# Altium footprint library LGA.PcbLib: 12 footprints
Each footprint in its own frame and in the unit in brackets; x right, y up, seen from the top. Pads: shape width x height; smd on the part's side, far side on the other; paste and mask are expansions set on the pad; w line width, h text height; cw(c..) or ccw(c..) is an arc to the next point about the centre after c.
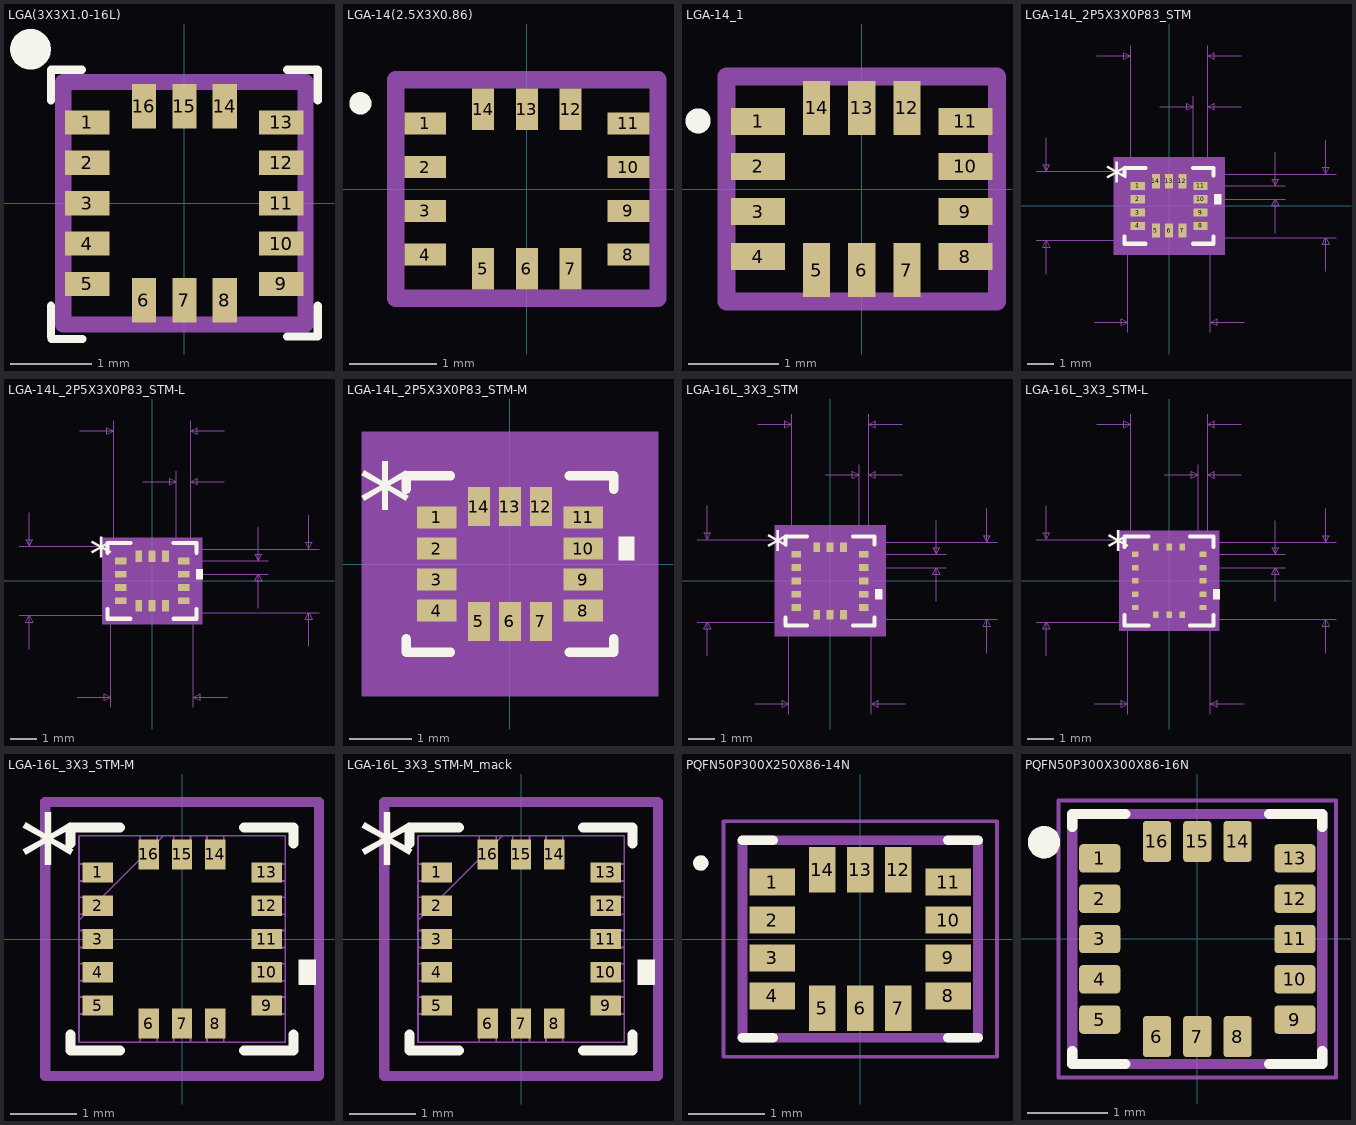
[diagram p0: the footprints below, top view; thin cyan lines are the x and y axes]

## LGA(3X3X1.0-16L) [mm]
pads (16):
  rect 0.55x0.3 smd: 1(-1.2,1) 2(-1.2,0.5) 3(-1.2,0) 4(-1.2,-0.5) 5(-1.2,-1) 9(1.2,-1) 10(1.2,-0.5) 11(1.2,0) 12(1.2,0.5) 13(1.2,1)
  rect 0.3x0.55 smd: 6(-0.5,-1.2) 7(0,-1.2) 8(0.5,-1.2) 14(0.5,1.2) 15(0,1.2) 16(-0.5,1.2)
Top Overlay:
  circle w0.25: c-1.905,1.905 r0.127
  lines w0.1: -1.651,-1.651 -1.651,-1.27 ; -1.651,1.27 -1.651,1.651 -1.27,1.651 ; -1.644,-1.681 -1.263,-1.681 ; 1.27,-1.651 1.651,-1.651 1.651,-1.27 ; 1.27,1.651 1.651,1.651 1.651,1.27
Mechanical 13:
  lines w0.2: -1.5,-1.5 -1.5,1.5 1.5,1.5 1.5,-1.5 -1.5,-1.5
3D body "LGA-16L_3X3_STM.step": height 0.87, standoff 0, extent -1.549,-1.549 1.549,1.549

## LGA-14(2.5X3X0.86) [mm]
pads (14):
  rect 0.475x0.25 smd: 1(-1.162,0.75) 2(-1.162,0.25) 3(-1.162,-0.25) 4(-1.162,-0.75) 8(1.162,-0.75) 9(1.162,-0.25) 10(1.162,0.25) 11(1.162,0.75)
  rect 0.25x0.475 smd: 5(-0.5,-0.913) 6(0,-0.913) 7(0.5,-0.913) 12(0.5,0.913) 13(0,0.913) 14(-0.5,0.913)
Top Overlay:
  circle w0.2: c-1.905,0.98 r0.027
Mechanical 13:
  lines w0.2: -1.5,-1.25 -1.5,1.25 1.5,1.25 1.5,-1.25 -1.5,-1.25
3D body "LSM6DSOTR.stp": height 0.86, standoff 0, extent -1.5,-1.25 1.5,1.25

## LGA-14_1 [mm]
pads (14):
  rect 0.6x0.3 smd: 1(-1.15,0.75) 2(-1.15,0.25) 3(-1.15,-0.25) 4(-1.15,-0.75) 8(1.15,-0.75) 9(1.15,-0.25) 10(1.15,0.25) 11(1.15,0.75)
  rect 0.3x0.6 smd: 5(-0.5,-0.9) 6(0,-0.9) 7(0.5,-0.9) 12(0.5,0.9) 13(0,0.9) 14(-0.5,0.9)
Top Overlay:
  circle w0.254: c-1.815,0.756 r0.012
Mechanical 13:
  lines w0.2: -1.5,-1.25 1.5,-1.25 1.5,1.25 -1.5,1.25 -1.5,-1.25
3D body "LSM6DSOXTR.stp": height 0.86, standoff 0, extent -1.62,-1.25 1.38,1.25

## LGA-14L_2P5X3X0P83_STM [mil]
pads (14):
  rect 21x12 smd paste-2.1 mask+2: 1(-46.5,29.53) 2(-46.5,9.84) 3(-46.5,-9.84) 4(-46.5,-29.53) 8(46.5,-29.53) 9(46.5,-9.84) 10(46.5,9.84) 11(46.5,29.53)
  rect 12x21 smd paste-2.1 mask+2: 5(-19.68,-36.5) 6(0,-36.5) 7(19.68,-36.5) 12(19.68,36.5) 13(0,36.5) 14(-19.68,36.5)
Top Overlay:
  region: 67,17.34 77,17.34 77,2.34 67,2.34
  lines w6: -66,-45.05 -66,-56 -35.2,-56 ; -66,45.05 -66,56 -35.2,56 ; 35.2,-56 66,-56 66,-45.05 ; 35.2,56 66,56 66,45.05
  text "*" at -94.5,14.37 h50
Mechanical 5:
  region: 82,-72 -82,-72 -82,72 82,72
Mechanical 7:
  lines w1: -197,-51 61,-51 ; -197,51 61,51 61,-187 ; -182,-101 -182,-51 ; -182,101 -182,51 ; -111,-172 -61,-172 ; -107,222 -57,222 ; -61,-187 -61,51 ; -57,29.53 -57,237 ; -14,147 36,147 ; 19.68,-47 247,-47 ; 19.68,47 247,47 ; 36,29.53 36,162 ; 46.5,9.84 172,9.84 ; 46.5,29.53 172,29.53 ; 57,162 57,29.53 57,237 ; 107,147 57,147 ; 107,222 57,222 ; 111,-172 61,-172 ; 157,-40.16 157,9.84 ; 157,79.53 157,29.53 ; 232,-97 232,-47 ; 232,97 232,47 ; -182,-51 -177,-61 -187,-61 -182,-51 ; -182,51 -177,61 -187,61 -182,51 ; -61,-172 -71,-177 -71,-167 -61,-172 ; -57,222 -67,217 -67,227 -57,222 ; 36,147 26,142 26,152 36,147 ; 57,147 67,142 67,152 57,147 ; 57,222 67,217 67,227 57,222 ; 61,-172 71,-177 71,-167 61,-172 ; 157,9.84 162,-0.16 152,-0.16 157,9.84 ; 157,29.53 162,39.53 152,39.53 157,29.53 ; 232,-47 237,-57 227,-57 232,-47 ; 232,47 237,57 227,57 232,47
  text "0.122in/3.099mm" at -93.75,-217 h25
  text "0.102in/2.591mm" at -389.5,-12.5 h25
  text "0.094in/2.388mm" at 252,-12.5 h25
  text "0.114in/2.896mm" at -93.75,242 h25
  text "0.021in/0.533mm" at -47.25,167 h25
  text "0.02in/0.5mm" at 177,7.18 h25
  text "Alt 2 Padstyle: OX90Y60D30P" at -337.5,-597 h50
  text "Alt 1 Padstyle: OX60Y90D30P" at -337.5,-537 h50
  text "Default Padstyle: RX12Y21D0T" at -350,-357 h50
Mechanical 13:
  lines w1: -61,1 -11,51 ; -61,-51 -61,51 61,51 61,-51 -61,-51 ; -61,-35.53 -57,-35.53 -57,-23.53 -61,-23.53 -61,-35.53 ; -61,-15.84 -57,-15.84 -57,-3.84 -61,-3.84 -61,-15.84 ; -61,3.84 -57,3.84 -57,15.84 -61,15.84 -61,3.84 ; -61,23.53 -57,23.53 -57,35.53 -61,35.53 -61,23.53 ; -25.68,-51 -25.68,-47 -13.69,-47 -13.69,-51 -25.68,-51 ; -25.68,47 -25.68,51 -13.69,51 -13.69,47 -25.68,47 ; -6,-51 -6,-47 6,-47 6,-51 -6,-51 ; -6,47 -6,51 6,51 6,47 -6,47 ; 13.69,-51 13.69,-47 25.68,-47 25.68,-51 13.69,-51 ; 13.69,47 13.69,51 25.68,51 25.68,47 13.69,47 ; 57,-35.53 57,-23.53 61,-23.53 61,-35.53 57,-35.53 ; 57,-15.84 57,-3.84 61,-3.84 61,-15.84 57,-15.84 ; 57,3.84 57,15.84 61,15.84 61,3.84 57,3.84 ; 57,23.53 57,35.53 61,35.53 61,23.53 57,23.53
  text "*" at -48.5,14.37 h50
Mechanical 15:
  region: -35.69,-61 -71,-61 -71,-45.53 -71,45.53 -71,61 -35.69,61 35.69,61 71,61 71,45.53 71,-45.53 71,-61 35.69,-61
  lines w6: -71,-61 -35.69,-61 35.69,-61 71,-61 71,-45.53 71,45.53 71,61 35.69,61 -35.69,61 -71,61 -71,45.53 -71,-45.53 -71,-61
3D body "LGA-14L_2P5X3X0P83_STM.step": height 34.09, standoff 0, extent -60.98,-50.98 60.99,50.99
3D body: height 10, standoff 0, extent 0,0 10,10

## LGA-14L_2P5X3X0P83_STM-L [mil]
pads (14):
  rect 17x10 smd paste+0 mask+0: 1(-46.5,29.53) 2(-46.5,9.84) 3(-46.5,-9.84) 4(-46.5,-29.53) 8(46.5,-29.53) 9(46.5,-9.84) 10(46.5,9.84) 11(46.5,29.53)
  rect 10x17 smd paste+0 mask+0: 5(-19.68,-36.5) 6(0,-36.5) 7(19.68,-36.5) 12(19.68,36.5) 13(0,36.5) 14(-19.68,36.5)
Top Overlay:
  region: 65,17.34 75,17.34 75,2.34 65,2.34
  lines w6: -66,-41.64 -66,-56 -31.8,-56 ; -66,41.64 -66,56 -31.8,56 ; 31.8,-56 66,-56 66,-41.64 ; 31.8,56 66,56 66,41.64
  text "*" at -92.5,14.37 h50
Mechanical 5:
  region: 74,-64 -74,-64 -74,64 74,64
Mechanical 7:
  lines w1: -197,-51 61,-51 ; -197,51 61,51 61,-187 ; -182,-101 -182,-51 ; -182,101 -182,51 ; -111,-172 -61,-172 ; -107,222 -57,222 ; -61,-187 -61,51 ; -57,29.53 -57,237 ; -14,147 36,147 ; 19.68,-47 247,-47 ; 19.68,47 247,47 ; 36,29.53 36,162 ; 46.5,9.84 172,9.84 ; 46.5,29.53 172,29.53 ; 57,162 57,29.53 57,237 ; 107,147 57,147 ; 107,222 57,222 ; 111,-172 61,-172 ; 157,-40.16 157,9.84 ; 157,79.53 157,29.53 ; 232,-97 232,-47 ; 232,97 232,47 ; -182,-51 -187,-61 -177,-61 -182,-51 ; -182,51 -187,61 -177,61 -182,51 ; -61,-172 -71,-167 -71,-177 -61,-172 ; -57,222 -67,227 -67,217 -57,222 ; 36,147 26,152 26,142 36,147 ; 57,147 67,152 67,142 57,147 ; 57,222 67,227 67,217 57,222 ; 61,-172 71,-167 71,-177 61,-172 ; 157,9.84 152,-0.16 162,-0.16 157,9.84 ; 157,29.53 152,39.53 162,39.53 157,29.53 ; 232,-47 227,-57 237,-57 232,-47 ; 232,47 227,57 237,57 232,47
  text "Default Padstyle: RX10Y17D0T" at -350,-355 h50
  text "Alt 1 Padstyle: OX60Y90D30P" at -337.5,-535 h50
  text "Alt 2 Padstyle: OX90Y60D30P" at -337.5,-595 h50
  text "0.02in/0.5mm" at 177,7.18 h25
  text "0.021in/0.533mm" at -47.25,167 h25
  text "0.114in/2.896mm" at -93.75,242 h25
  text "0.094in/2.388mm" at 252,-12.5 h25
  text "0.102in/2.591mm" at -389.5,-12.5 h25
  text "0.122in/3.099mm" at -93.75,-217 h25
Mechanical 13:
  lines w1: -61,1 -11,51 ; -61,-51 61,-51 61,51 -61,51 -61,-51 ; -61,-35.53 -61,-23.53 -57,-23.53 -57,-35.53 -61,-35.53 ; -61,-15.84 -61,-3.84 -57,-3.84 -57,-15.84 -61,-15.84 ; -61,3.84 -61,15.84 -57,15.84 -57,3.84 -61,3.84 ; -61,23.53 -61,35.53 -57,35.53 -57,23.53 -61,23.53 ; -25.68,-51 -13.69,-51 -13.69,-47 -25.68,-47 -25.68,-51 ; -25.68,47 -13.69,47 -13.69,51 -25.68,51 -25.68,47 ; -6,-51 6,-51 6,-47 -6,-47 -6,-51 ; -6,47 6,47 6,51 -6,51 -6,47 ; 13.69,-51 25.68,-51 25.68,-47 13.69,-47 13.69,-51 ; 13.69,47 25.68,47 25.68,51 13.69,51 13.69,47 ; 57,-35.53 61,-35.53 61,-23.53 57,-23.53 57,-35.53 ; 57,-15.84 61,-15.84 61,-3.84 57,-3.84 57,-15.84 ; 57,3.84 61,3.84 61,15.84 57,15.84 57,3.84 ; 57,23.53 61,23.53 61,35.53 57,35.53 57,23.53
  text "*" at -50.5,14.37 h50
Mechanical 15:
  region: -28.68,-55 -65,-55 -65,-38.53 -65,38.53 -65,55 -28.68,55 28.68,55 65,55 65,38.53 65,-38.53 65,-55 28.68,-55
  lines w6: -65,-55 -65,-38.53 -65,38.53 -65,55 -28.68,55 28.68,55 65,55 65,38.53 65,-38.53 65,-55 28.68,-55 -28.68,-55 -65,-55
3D body: height 10, standoff 0, extent 0,0 10,10
3D body "LGA-14L_2P5X3X0P83_STM.step": height 34.09, standoff 0, extent -60.98,-50.98 60.99,50.99

## LGA-14L_2P5X3X0P83_STM-M [mil]
pads (14):
  rect 25x14 smd paste+0 mask+0: 1(-46.5,29.53) 2(-46.5,9.84) 3(-46.5,-9.84) 4(-46.5,-29.53) 8(46.5,-29.53) 9(46.5,-9.84) 10(46.5,9.84) 11(46.5,29.53)
  rect 14x25 smd paste+0 mask+0: 5(-19.68,-36.5) 6(0,-36.5) 7(19.68,-36.5) 12(19.68,36.5) 13(0,36.5) 14(-19.68,36.5)
Top Overlay:
  region: 69,17.34 79,17.34 79,2.34 69,2.34
  lines w6: -66,-47.6 -66,-56 -37.76,-56 ; -66,47.6 -66,56 -37.76,56 ; 37.76,-56 66,-56 66,-47.6 ; 37.76,56 66,56 66,47.6
  text "*" at -96.5,14.37 h50
Mechanical 5:
  region: 94,-84 -94,-84 -94,84 94,84
Mechanical 13:
  lines w1: -61,1 -11,51 ; -61,-51 61,-51 61,51 -61,51 -61,-51 ; -61,-35.53 -61,-23.53 -57,-23.53 -57,-35.53 -61,-35.53 ; -61,-15.84 -61,-3.84 -57,-3.84 -57,-15.84 -61,-15.84 ; -61,3.84 -61,15.84 -57,15.84 -57,3.84 -61,3.84 ; -61,23.53 -61,35.53 -57,35.53 -57,23.53 -61,23.53 ; -25.68,-51 -13.69,-51 -13.69,-47 -25.68,-47 -25.68,-51 ; -25.68,47 -13.69,47 -13.69,51 -25.68,51 -25.68,47 ; -6,-51 6,-51 6,-47 -6,-47 -6,-51 ; -6,47 6,47 6,51 -6,51 -6,47 ; 13.69,-51 25.68,-51 25.68,-47 13.69,-47 13.69,-51 ; 13.69,47 25.68,47 25.68,51 13.69,51 13.69,47 ; 57,-35.53 61,-35.53 61,-23.53 57,-23.53 57,-35.53 ; 57,-15.84 61,-15.84 61,-3.84 57,-3.84 57,-15.84 ; 57,3.84 61,3.84 61,15.84 57,15.84 57,3.84 ; 57,23.53 61,23.53 61,35.53 57,35.53 57,23.53
  text "*" at -46.5,14.37 h50
Mechanical 15:
  region: -46.69,-71 -81,-71 -81,-56.53 -81,56.53 -81,71 -46.69,71 46.69,71 81,71 81,56.53 81,-56.53 81,-71 46.69,-71
  lines w6: -81,-71 -81,-56.53 -81,56.53 -81,71 -46.69,71 46.69,71 81,71 81,56.53 81,-56.53 81,-71 46.69,-71 -46.69,-71 -81,-71
3D body "LGA-14L_2P5X3X0P83_STM.step": height 34.09, standoff 0, extent -60.98,-50.98 60.99,50.99
3D body: height 10, standoff 0, extent 0,0 10,10

## LGA-16L_3X3_STM [mil]
pads (16):
  rect 14x10 smd paste-1.4 mask+2: 1(-50,39.37) 2(-50,19.68) 3(-50,0) 4(-50,-19.68) 5(-50,-39.37) 9(50,-39.37) 10(50,-19.68) 11(50,0) 12(50,19.68) 13(50,39.37)
  rect 10x14 smd paste-1.4 mask+2: 6(-19.68,-50) 7(0,-50) 8(19.68,-50) 14(19.68,50) 15(0,50) 16(-19.68,50)
Top Overlay:
  region: 67,-12.19 77,-12.19 77,-27.18 67,-27.18
  lines w6: -66,-53.89 -66,-66 -34.2,-66 ; -66,53.89 -66,66 -34.2,66 ; 34.2,-66 66,-66 66,-53.89 ; 34.2,66 66,66 66,53.89
  text "*" at -94.5,24.21 h50
Mechanical 5:
  region: 82,-82 -82,-82 -82,82 82,82
Mechanical 7:
  lines w1: -197,-61 61,-61 ; -197,61 61,61 61,-197 ; -182,-111 -182,-61 ; -182,111 -182,61 ; -111,-182 -61,-182 ; -107,232 -57,232 ; -61,-197 -61,61 ; -57,39.37 -57,247 ; -7,157 43,157 ; 19.68,-57 247,-57 ; 19.68,57 247,57 ; 43,39.37 43,172 ; 50,19.68 172,19.68 ; 50,39.37 172,39.37 ; 57,172 57,39.37 57,247 ; 107,157 57,157 ; 107,232 57,232 ; 111,-182 61,-182 ; 157,-30.32 157,19.68 ; 157,89.37 157,39.37 ; 232,-107 232,-57 ; 232,107 232,57 ; -182,-61 -187,-71 -177,-71 -182,-61 ; -182,61 -187,71 -177,71 -182,61 ; -61,-182 -71,-177 -71,-187 -61,-182 ; -57,232 -67,237 -67,227 -57,232 ; 43,157 33,162 33,152 43,157 ; 57,157 67,162 67,152 57,157 ; 57,232 67,237 67,227 57,232 ; 61,-182 71,-177 71,-187 61,-182 ; 157,19.68 152,9.69 162,9.69 157,19.68 ; 157,39.37 152,49.37 162,49.37 157,39.37 ; 232,-57 227,-67 237,-67 232,-57 ; 232,57 227,67 237,67 232,57
  text "Default Padstyle: RX10Y14D0T" at -350,-367 h50
  text "Alt 1 Padstyle: OX60Y90D30P" at -337.5,-547 h50
  text "Alt 2 Padstyle: OX90Y60D30P" at -337.5,-607 h50
  text "0.02in/0.5mm" at 177,17.03 h25
  text "0.014in/0.356mm" at -43.75,177 h25
  text "0.114in/2.896mm" at -93.75,252 h25
  text "0.114in/2.896mm" at 252,-12.5 h25
  text "0.122in/3.099mm" at -389.5,-12.5 h25
  text "0.122in/3.099mm" at -93.75,-227 h25
Mechanical 13:
  lines w1: -61,11 -11,61 ; -61,-61 61,-61 61,61 -61,61 -61,-61 ; -61,-44.37 -61,-34.37 -57,-34.37 -57,-44.37 -61,-44.37 ; -61,-24.68 -61,-14.69 -57,-14.69 -57,-24.68 -61,-24.68 ; -61,-5 -61,5 -57,5 -57,-5 -61,-5 ; -61,14.69 -61,24.68 -57,24.68 -57,14.69 -61,14.69 ; -61,34.37 -61,44.37 -57,44.37 -57,34.37 -61,34.37 ; -24.68,-61 -14.69,-61 -14.69,-57 -24.68,-57 -24.68,-61 ; -24.68,57 -14.69,57 -14.69,61 -24.68,61 -24.68,57 ; -5,-61 5,-61 5,-57 -5,-57 -5,-61 ; -5,57 5,57 5,61 -5,61 -5,57 ; 14.69,-61 24.68,-61 24.68,-57 14.69,-57 14.69,-61 ; 14.69,57 24.68,57 24.68,61 14.69,61 14.69,57 ; 57,-44.37 61,-44.37 61,-34.37 57,-34.37 57,-44.37 ; 57,-24.68 61,-24.68 61,-14.69 57,-14.69 57,-24.68 ; 57,-5 61,-5 61,5 57,5 57,-5 ; 57,14.69 61,14.69 61,24.68 57,24.68 57,14.69 ; 57,34.37 61,34.37 61,44.37 57,44.37 57,34.37
  text "*" at -55.5,24.21 h50
Mechanical 15:
  region: -34.69,-71 -71,-71 -71,-54.37 -71,54.37 -71,71 -34.69,71 34.69,71 71,71 71,54.37 71,-54.37 71,-71 34.69,-71
  lines w6: -71,-71 -71,-54.37 -71,54.37 -71,71 -34.69,71 34.69,71 71,71 71,54.37 71,-54.37 71,-71 34.69,-71 -34.69,-71 -71,-71
3D body: height 10, standoff 0, extent 0,0 10,10
3D body "LGA-16L_3X3_STM.step": height 34.09, standoff 0, extent -60.98,-60.98 60.99,60.99

## LGA-16L_3X3_STM-L [mil]
pads (16):
  rect 10x8 smd paste+0 mask+0: 1(-50,39.37) 2(-50,19.68) 3(-50,0) 4(-50,-19.68) 5(-50,-39.37) 9(50,-39.37) 10(50,-19.68) 11(50,0) 12(50,19.68) 13(50,39.37)
  rect 8x10 smd paste+0 mask+0: 6(-19.68,-50) 7(0,-50) 8(19.68,-50) 14(19.68,50) 15(0,50) 16(-19.68,50)
Top Overlay:
  region: 65,-12.19 75,-12.19 75,-27.18 65,-27.18
  lines w6: -66,-50.48 -66,-66 -30.8,-66 ; -66,50.48 -66,66 -30.8,66 ; 30.8,-66 66,-66 66,-50.48 ; 30.8,66 66,66 66,50.48
  text "*" at -92.5,24.21 h50
Mechanical 5:
  region: 74,-74 -74,-74 -74,74 74,74
Mechanical 7:
  lines w1: -197,-61 61,-61 ; -197,61 61,61 61,-197 ; -182,-111 -182,-61 ; -182,111 -182,61 ; -111,-182 -61,-182 ; -107,232 -57,232 ; -61,-197 -61,61 ; -57,39.37 -57,247 ; -7,157 43,157 ; 19.68,-57 247,-57 ; 19.68,57 247,57 ; 43,39.37 43,172 ; 50,19.68 172,19.68 ; 50,39.37 172,39.37 ; 57,172 57,39.37 57,247 ; 107,157 57,157 ; 107,232 57,232 ; 111,-182 61,-182 ; 157,-30.32 157,19.68 ; 157,89.37 157,39.37 ; 232,-107 232,-57 ; 232,107 232,57 ; -182,-61 -177,-71 -187,-71 -182,-61 ; -182,61 -177,71 -187,71 -182,61 ; -61,-182 -71,-187 -71,-177 -61,-182 ; -57,232 -67,227 -67,237 -57,232 ; 43,157 33,152 33,162 43,157 ; 57,157 67,152 67,162 57,157 ; 57,232 67,227 67,237 57,232 ; 61,-182 71,-187 71,-177 61,-182 ; 157,19.68 162,9.69 152,9.69 157,19.68 ; 157,39.37 162,49.37 152,49.37 157,39.37 ; 232,-57 237,-67 227,-67 232,-57 ; 232,57 237,67 227,67 232,57
  text "0.122in/3.099mm" at -93.75,-227 h25
  text "0.122in/3.099mm" at -389.5,-12.5 h25
  text "0.114in/2.896mm" at 252,-12.5 h25
  text "0.114in/2.896mm" at -93.75,252 h25
  text "0.014in/0.356mm" at -43.75,177 h25
  text "0.02in/0.5mm" at 177,17.03 h25
  text "Alt 2 Padstyle: OX90Y60D30P" at -337.5,-605 h50
  text "Alt 1 Padstyle: OX60Y90D30P" at -337.5,-545 h50
  text "Default Padstyle: RX8Y10D0T" at -337.5,-365 h50
Mechanical 13:
  lines w1: -61,11 -11,61 ; -61,-61 -61,61 61,61 61,-61 -61,-61 ; -61,-44.37 -57,-44.37 -57,-34.37 -61,-34.37 -61,-44.37 ; -61,-24.68 -57,-24.68 -57,-14.69 -61,-14.69 -61,-24.68 ; -61,-5 -57,-5 -57,5 -61,5 -61,-5 ; -61,14.69 -57,14.69 -57,24.68 -61,24.68 -61,14.69 ; -61,34.37 -57,34.37 -57,44.37 -61,44.37 -61,34.37 ; -24.68,-61 -24.68,-57 -14.69,-57 -14.69,-61 -24.68,-61 ; -24.68,57 -24.68,61 -14.69,61 -14.69,57 -24.68,57 ; -5,-61 -5,-57 5,-57 5,-61 -5,-61 ; -5,57 -5,61 5,61 5,57 -5,57 ; 14.69,-61 14.69,-57 24.68,-57 24.68,-61 14.69,-61 ; 14.69,57 14.69,61 24.68,61 24.68,57 14.69,57 ; 57,-44.37 57,-34.37 61,-34.37 61,-44.37 57,-44.37 ; 57,-24.68 57,-14.69 61,-14.69 61,-24.68 57,-24.68 ; 57,-5 57,5 61,5 61,-5 57,-5 ; 57,14.69 57,24.68 61,24.68 61,14.69 57,14.69 ; 57,34.37 57,44.37 61,44.37 61,34.37 57,34.37
  text "*" at -57.5,24.21 h50
Mechanical 15:
  region: -27.68,-65 -65,-65 -65,-47.37 -65,47.37 -65,65 -27.68,65 27.68,65 65,65 65,47.37 65,-47.37 65,-65 27.68,-65
  lines w6: -65,-65 -27.68,-65 27.68,-65 65,-65 65,-47.37 65,47.37 65,65 27.68,65 -27.68,65 -65,65 -65,47.37 -65,-47.37 -65,-65
3D body "LGA-16L_3X3_STM.step": height 34.09, standoff 0, extent -60.98,-60.98 60.99,60.99
3D body: height 10, standoff 0, extent 0,0 10,10

## LGA-16L_3X3_STM-M [mil]
pads (16):
  rect 18x12 smd paste+0 mask+0: 1(-50,39.37) 2(-50,19.68) 3(-50,0) 4(-50,-19.68) 5(-50,-39.37) 9(50,-39.37) 10(50,-19.68) 11(50,0) 12(50,19.68) 13(50,39.37)
  rect 12x18 smd paste+0 mask+0: 6(-19.68,-50) 7(0,-50) 8(19.68,-50) 14(19.68,50) 15(0,50) 16(-19.68,50)
Top Overlay:
  region: 69,-12.19 79,-12.19 79,-27.18 69,-27.18
  lines w6: -66,-56.44 -66,-66 -36.76,-66 ; -66,56.44 -66,66 -36.76,66 ; 36.76,-66 66,-66 66,-56.44 ; 36.76,66 66,66 66,56.44
  text "*" at -96.5,24.21 h50
Mechanical 13:
  lines w1: -61,11 -11,61 ; -61,-61 61,-61 61,61 -61,61 -61,-61 ; -61,-44.37 -61,-34.37 -57,-34.37 -57,-44.37 -61,-44.37 ; -61,-24.68 -61,-14.69 -57,-14.69 -57,-24.68 -61,-24.68 ; -61,-5 -61,5 -57,5 -57,-5 -61,-5 ; -61,14.69 -61,24.68 -57,24.68 -57,14.69 -61,14.69 ; -61,34.37 -61,44.37 -57,44.37 -57,34.37 -61,34.37 ; -24.68,-61 -14.69,-61 -14.69,-57 -24.68,-57 -24.68,-61 ; -24.68,57 -14.69,57 -14.69,61 -24.68,61 -24.68,57 ; -5,-61 5,-61 5,-57 -5,-57 -5,-61 ; -5,57 5,57 5,61 -5,61 -5,57 ; 14.69,-61 24.68,-61 24.68,-57 14.69,-57 14.69,-61 ; 14.69,57 24.68,57 24.68,61 14.69,61 14.69,57 ; 57,-44.37 61,-44.37 61,-34.37 57,-34.37 57,-44.37 ; 57,-24.68 61,-24.68 61,-14.69 57,-14.69 57,-24.68 ; 57,-5 61,-5 61,5 57,5 57,-5 ; 57,14.69 61,14.69 61,24.68 57,24.68 57,14.69 ; 57,34.37 61,34.37 61,44.37 57,44.37 57,34.37
Mechanical 15:
  lines w6: -81,-81 -81,-65.37 -81,65.37 -81,81 -45.69,81 45.69,81 81,81 81,65.37 81,-65.37 81,-81 45.69,-81 -45.69,-81 -81,-81
3D body "LGA-16L_3X3_STM.step": height 34.09, standoff 0, extent -60.98,-60.98 60.99,60.99
3D body: height 10, standoff 0, extent 0,0 10,10

## LGA-16L_3X3_STM-M_mack [mil]
pads (16):
  rect 18x12 smd paste+0 mask+1.97: 1(-50,39.37) 2(-50,19.68) 3(-50,0) 4(-50,-19.68) 5(-50,-39.37) 9(50,-39.37) 10(50,-19.68) 11(50,0) 12(50,19.68) 13(50,39.37)
  rect 12x18 smd paste+0 mask+1.97: 6(-19.68,-50) 7(0,-50) 8(19.68,-50) 14(19.68,50) 15(0,50) 16(-19.68,50)
Top Overlay:
  region: 69,-12.19 79,-12.19 79,-27.18 69,-27.18
  lines w6: -66,-56.44 -66,-66 -36.76,-66 ; -66,56.44 -66,66 -36.76,66 ; 36.76,-66 66,-66 66,-56.44 ; 36.76,66 66,66 66,56.44
  text "*" at -96.5,24.21 h50
Mechanical 13:
  lines w1: -61,11 -11,61 ; -61,-61 -61,61 61,61 61,-61 -61,-61 ; -61,-44.37 -57,-44.37 -57,-34.37 -61,-34.37 -61,-44.37 ; -61,-24.68 -57,-24.68 -57,-14.69 -61,-14.69 -61,-24.68 ; -61,-5 -57,-5 -57,5 -61,5 -61,-5 ; -61,14.69 -57,14.69 -57,24.68 -61,24.68 -61,14.69 ; -61,34.37 -57,34.37 -57,44.37 -61,44.37 -61,34.37 ; -24.68,-61 -24.68,-57 -14.69,-57 -14.69,-61 -24.68,-61 ; -24.68,57 -24.68,61 -14.69,61 -14.69,57 -24.68,57 ; -5,-61 -5,-57 5,-57 5,-61 -5,-61 ; -5,57 -5,61 5,61 5,57 -5,57 ; 14.69,-61 14.69,-57 24.68,-57 24.68,-61 14.69,-61 ; 14.69,57 14.69,61 24.68,61 24.68,57 14.69,57 ; 57,-44.37 57,-34.37 61,-34.37 61,-44.37 57,-44.37 ; 57,-24.68 57,-14.69 61,-14.69 61,-24.68 57,-24.68 ; 57,-5 57,5 61,5 61,-5 57,-5 ; 57,14.69 57,24.68 61,24.68 61,14.69 57,14.69 ; 57,34.37 57,44.37 61,44.37 61,34.37 57,34.37
Mechanical 15:
  lines w6: -81,-81 -45.69,-81 45.69,-81 81,-81 81,-65.37 81,65.37 81,81 45.69,81 -45.69,81 -81,81 -81,65.37 -81,-65.37 -81,-81
3D body: height 10, standoff 0, extent 0,0 10,10
3D body "LGA-16L_3X3_STM.step": height 34.09, standoff 0, extent -60.98,-60.98 60.99,60.99

## PQFN50P300X250X86-14N [mm] "LGA-14"
pads (14):
  rect 0.6x0.35 smd: 1(-1.16,0.75) 2(-1.16,0.25) 3(-1.16,-0.25) 4(-1.16,-0.75) 8(1.16,-0.75) 9(1.16,-0.25) 10(1.16,0.25) 11(1.16,0.75)
  rect 0.35x0.6 smd: 5(-0.5,-0.91) 6(0,-0.91) 7(0.5,-0.91) 12(0.5,0.91) 13(0,0.91) 14(-0.5,0.91)
Top Overlay:
  circle w0.1: c-2.1,1 r0.05
  lines w0.127: -1.55,-1.3 -1.15,-1.3 ; -1.55,1.3 -1.15,1.3 ; 1.15,-1.3 1.55,-1.3 ; 1.15,1.3 1.55,1.3
Mechanical 13:
  circle w0.1: c-2.1,1 r0.05
  lines w0.127: -1.55,-1.3 1.55,-1.3 1.55,1.3 -1.55,1.3 -1.55,-1.3
Mechanical 15:
  lines w0.05: -1.8,-1.55 -1.8,1.55 1.8,1.55 1.8,-1.55 -1.8,-1.55
3D body "User Library-LGA-14 2_5x3.step": height 0.86, standoff 0, extent -1.5,-1.25 1.5,1.25

## PQFN50P300X300X86-16N [mm] "snap eda"
pads (16):
  rrect25% 0.51x0.35 smd: 1(-1.21,1) 2(-1.21,0.5) 3(-1.21,0) 4(-1.21,-0.5) 5(-1.21,-1) 9(1.21,-1) 10(1.21,-0.5) 11(1.21,0) 12(1.21,0.5) 13(1.21,1)
  rrect25% 0.35x0.51 smd: 6(-0.5,-1.21) 7(0,-1.21) 8(0.5,-1.21) 14(0.5,1.21) 15(0,1.21) 16(-0.5,1.21)
Top Overlay:
  circle w0.2: c-1.9,1.2 r0.1
  lines w0.127: -1.55,-1.39 -1.55,-1.55 -0.89,-1.55 ; -1.55,1.39 -1.55,1.55 -0.89,1.55 ; 0.89,-1.55 1.55,-1.55 1.55,-1.39 ; 0.89,1.55 1.55,1.55 1.55,1.39
Mechanical 13:
  circle w0.2: c-1.9,1.2 r0.1
  lines w0.127: -1.55,-1.55 -1.55,1.55 1.55,1.55 1.55,-1.55 -1.55,-1.55
Mechanical 15:
  lines w0.05: -1.72,-1.72 -1.72,1.72 1.72,1.72 1.72,-1.72 -1.72,-1.72